# Altium footprint library Digital_IC.PcbLib: 28 footprints (part 1 of 2)
Each footprint in its own frame and in the unit in brackets; x right, y up, seen from the top. Pads: shape width x height; smd on the part's side, far side on the other; paste and mask are expansions set on the pad; w line width, h text height; cw(c..) or ccw(c..) is an arc to the next point about the centre after c.
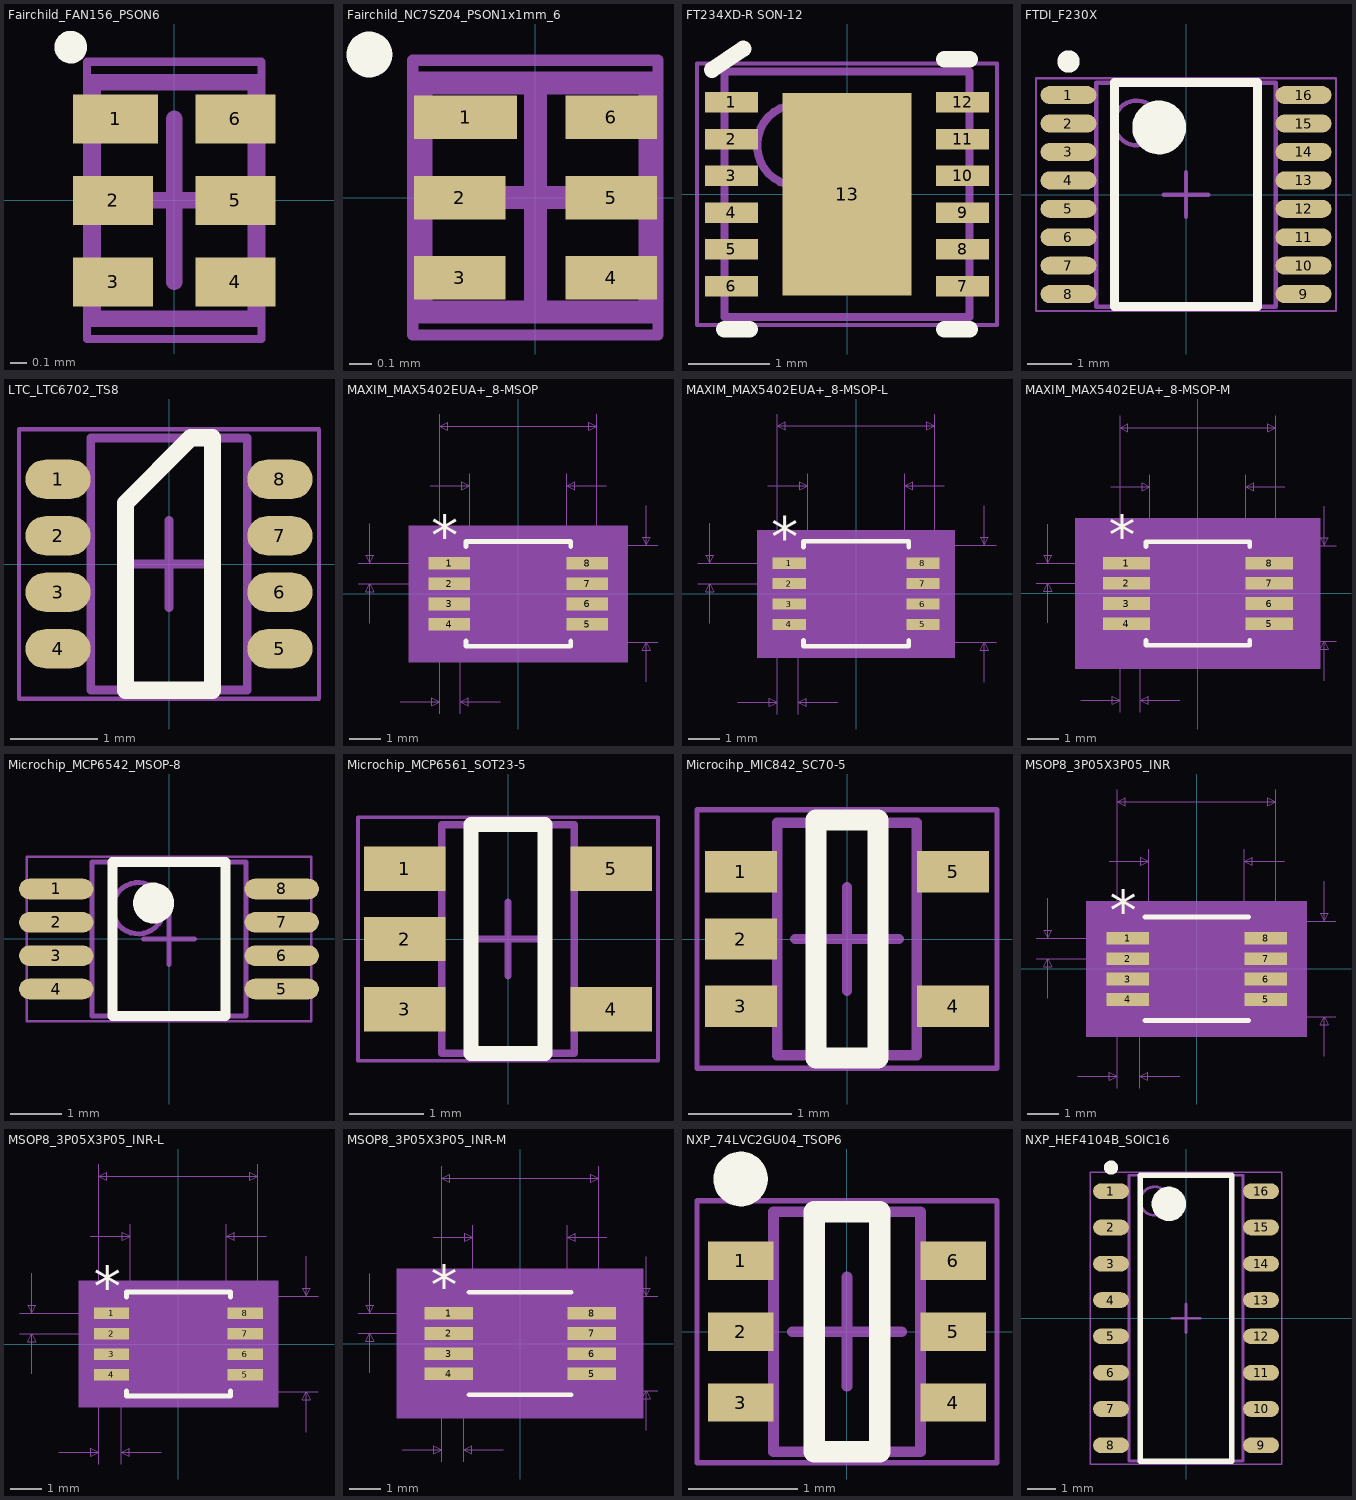
[diagram p0: the footprints below, top view; thin cyan lines are the x and y axes]

## Fairchild_FAN156_PSON6 [mm] "PSON, 6-Leads, Body 1.45x1.00mm, Pitch 0.50mm, IPC High Density"
height 0.55
pads (6):
  rect 0.52x0.3 smd mask+0.05: 1(-0.36,0.5)
  rect 0.49x0.3 smd mask+0.05: 2(-0.375,0) 3(-0.375,-0.5) 4(0.375,-0.5) 5(0.375,0) 6(0.375,0.5)
Top Overlay:
  circle w0.1: c-0.635,0.94 r0.05
Mechanical 13:
  lines w0.1: -0.5,-0.725 0.5,-0.725 0.5,0.725 -0.5,0.725 -0.5,-0.725
Mechanical 15:
  lines w0.05: -0.535,-0.85 0.535,-0.85 0.535,0.85 -0.535,0.85 -0.535,-0.85
  lines w0.1: -0.5,0 0.5,0 ; 0,-0.5 0,0.5
3D body "Fairchild_FAN156_PSON6.step": height 0.55, standoff 0, extent -0.501,-0.725 0.501,0.725

## Fairchild_NC7SZ04_PSON1x1mm_6 [mm] "PSON, 6-Leads, Body 1.00x1.00mm, Pitch 0.35mm, IPC High Density"
height 0.55
pads (6):
  rect 0.45x0.19 smd mask+0.03: 1(-0.305,0.35)
  rect 0.4x0.19 smd mask+0.03: 2(-0.33,0) 3(-0.33,-0.35) 4(0.33,-0.35) 5(0.33,0) 6(0.33,0.35)
Top Overlay:
  circle w0.1: c-0.725,0.625 r0.05
Mechanical 13:
  lines w0.1: -0.5,-0.5 0.5,-0.5 0.5,0.5 -0.5,0.5 -0.5,-0.5
Mechanical 15:
  lines w0.05: -0.535,-0.6 0.535,-0.6 0.535,0.6 -0.535,0.6 -0.535,-0.6
  lines w0.1: -0.5,0 0.5,0 ; 0,-0.5 0,0.5
3D body "Fairchild_NC7SZ04_PSON1x1mm_6.step": height 0.55, standoff 0, extent -0.501,-0.5 0.501,0.5

## FT234XD-R SON-12 [mm] "SON, 12-Leads, Body 3.00x3.00mm, Pitch 0.45mm, Thermal Pad 2.48x1.58mm, IPC High Density"
height 0.8
pads (13):
  rect 0.65x0.25 smd mask+0.035: 1(-1.415,1.125) 2(-1.415,0.675) 3(-1.415,0.225) 4(-1.415,-0.225) 5(-1.415,-0.675) 6(-1.415,-1.125) 7(1.415,-1.125) 8(1.415,-0.675) 9(1.415,-0.225) 10(1.415,0.225) 11(1.415,0.675) 12(1.415,1.125)
  rect 1.58x2.48 smd mask+0.035: 13(0,0)
Top Overlay:
  lines w0.2: -1.651,1.524 -1.27,1.778 ; -1.5,-1.65 -1.19,-1.65 ; 1.19,-1.65 1.5,-1.65 ; 1.19,1.65 1.5,1.65
Mechanical 13:
  circle w0.1: c-0.6,0.6 r0.5
  lines w0.1: -1.5,-1.5 1.5,-1.5 1.5,1.5 -1.5,1.5 -1.5,-1.5
Mechanical 15:
  lines w0.05: -1.835,-1.6 1.835,-1.6 1.835,1.6 -1.835,1.6 -1.835,-1.6
  lines w0.1: -0.5,0 0.5,0 ; 0,-0.5 0,0.5
3D body "FT234XD-R SON-12.step": height 0.8, standoff 0, extent -1.501,-1.5 1.501,1.5

## FTDI_F230X [mm] "SOP, 16-Leads, Body 4.90x3.90mm, Pitch 0.64mm, IPC High Density"
height 1.75
pads (16):
  oval 1.25x0.4 smd mask+0.023: 1(-2.625,2.222) 2(-2.625,1.587) 3(-2.625,0.953) 4(-2.625,0.318) 5(-2.625,-0.318) 6(-2.625,-0.953) 7(-2.625,-1.587) 8(-2.625,-2.222) 9(2.625,-2.222) 10(2.625,-1.587) 11(2.625,-0.953) 12(2.625,-0.318) 13(2.625,0.318) 14(2.625,0.953) 15(2.625,1.587) 16(2.625,2.222)
Top Overlay:
  circle w0.25: c-2.625,2.973 r0.125
  circle w0.6: c-0.6,1.5 r0.3
  lines w0.2: -1.6,-2.5 -1.6,2.5 1.6,2.5 1.6,-2.5 -1.6,-2.5
Mechanical 13:
  circle w0.1: c-1.1,1.6 r0.5
  lines w0.1: -2,-2.5 -2,2.5 2,2.5 2,-2.5 -2,-2.5
Mechanical 15:
  lines w0.05: -3.35,-2.6 -3.35,2.6 3.35,2.6 3.35,-2.6 -3.35,-2.6
  lines w0.1: -0.5,0 0.5,0 ; 0,-0.5 0,0.5
3D body "FTDI_F230X.step": height 1.75, standoff 0, extent -3,-2.5 3,2.5

## LTC_LTC6702_TS8 [mm] "TSOP, 8-Leads, Body 2.90x1.63mm, Pitch 0.65mm, IPC High Density"
height 1
pads (8):
  oval 0.75x0.45 smd mask+0.06: 1(-1.275,0.975) 2(-1.275,0.325) 3(-1.275,-0.325) 4(-1.275,-0.975) 5(1.275,-0.975) 6(1.275,-0.325) 7(1.275,0.325) 8(1.275,0.975)
Top Overlay:
  lines w0.2: -0.5,-1.45 0.5,-1.45 0.5,1.45 0.25,1.45 -0.5,0.7 -0.5,-1.45
Mechanical 13:
  lines w0.1: -0.9,-1.45 -0.9,1.45 0.9,1.45 0.9,-1.45 -0.9,-1.45
Mechanical 15:
  lines w0.05: -1.725,-1.55 -1.725,1.55 1.725,1.55 1.725,-1.55 -1.725,-1.55
  lines w0.1: -0.5,0 0.5,0 ; 0,-0.5 0,0.5
3D body "LTC_LTC6702_TS8.step": height 1, standoff 0, extent -1.4,-1.45 1.4,1.45

## MAXIM_MAX5402EUA+_8-MSOP [mil] "IC DGTL POT 10KOHM 256TAP 8UMAX"
pads (8):
  rect 52x16 smd paste+0 mask+0: 1(-87,38.4) 2(-87,12.8) 3(-87,-12.8) 4(-87,-38.4) 5(87,-38.4) 6(87,-12.8) 7(87,12.8) 8(87,38.4)
Top Overlay:
  lines w6: -66,-59.5 -66,-66 66,-66 66,-59.5 ; -66,59.5 -66,66 66,66 66,59.5
  text "*" at -109.5,49.4 h50
Mechanical 5:
  region: 138,-86 -138,-86 -138,86 138,86
Mechanical 7:
  lines w1: -202,12.8 -87,12.8 ; -202,38.4 -87,38.4 ; -187,-37.2 -187,12.8 ; -187,88.4 -187,38.4 ; -149,-136 -99,-136 ; -111,136 -61,136 ; -99,-151 -99,0 -99,226 ; -73,-151 -73,0 ; -61,0 -61,151 ; -23,-136 -73,-136 ; 0,-61 176,-61 ; 0,61 176,61 ; 61,0 61,151 ; 99,0 99,226 ; 111,136 61,136 ; 161,-111 161,-61 ; 161,111 161,61 ; -187,12.8 -182,2.8 -192,2.8 -187,12.8 ; -187,38.4 -182,48.4 -192,48.4 -187,38.4 ; -99,-136 -109,-141 -109,-131 -99,-136 ; -99,211 -89,206 -89,216 -99,211 ; -99,211 99,211 ; -73,-136 -63,-141 -63,-131 -73,-136 ; -61,136 -71,131 -71,141 -61,136 ; 61,136 71,131 71,141 61,136 ; 99,211 89,206 89,216 99,211 ; 161,-61 166,-71 156,-71 161,-61 ; 161,61 166,71 156,71 161,61
  text "0.026in/0.66mm" at -173.5,-181 h25
  text "0.026in/0.65mm" at -382,13.1 h25
  text "0.122in/3.099mm" at 181,-12.5 h25
  text "0.198in/5.029mm" at -93.75,231 h25
  text "0.122in/3.099mm" at -93.75,156 h25
  text "Alt 2 Padstyle: OX90Y60D30P" at -337.5,-561 h50
  text "Alt 1 Padstyle: OX60Y90D30P" at -337.5,-501 h50
  text "Pin One Padstyle: RX52Y16D0T" at -350,-321 h50
  text "Default Padstyle: RX52Y16D0T" at -350,-261 h50
Mechanical 13:
  lines w0: -12,61 ccw(c0,61) 12,61
  lines w1: -99,-45.4 -61,-45.4 -61,-31.4 -99,-31.4 -99,-45.4 ; -99,-19.8 -61,-19.8 -61,-5.8 -99,-5.8 -99,-19.8 ; -99,5.8 -61,5.8 -61,19.8 -99,19.8 -99,5.8 ; -99,31.4 -61,31.4 -61,45.4 -99,45.4 -99,31.4 ; -61,-61 -61,61 61,61 61,-61 -61,-61 ; 61,-45.4 99,-45.4 99,-31.4 61,-31.4 61,-45.4 ; 61,-19.8 99,-19.8 99,-5.8 61,-5.8 61,-19.8 ; 61,5.8 99,5.8 99,19.8 61,19.8 61,5.8 ; 61,31.4 99,31.4 99,45.4 61,45.4 61,31.4
  text "*" at -58.5,8 h50
Mechanical 15:
  region: -71,-56.4 -123,-56.4 -123,56.4 -71,56.4 -71,71 71,71 71,56.4 123,56.4 123,-56.4 71,-56.4 71,-71 -71,-71
  lines w6: -123,-56.4 -71,-56.4 -71,-71 71,-71 71,-56.4 123,-56.4 123,56.4 71,56.4 71,71 -71,71 -71,56.4 -123,56.4 -123,-56.4
3D body: height 10, standoff 0, extent 0,0 10,10
3D body "21-0036K_MXM.step": height 43.11, standoff 0, extent -99.01,-60.98 99.01,60.99

## MAXIM_MAX5402EUA+_8-MSOP-L [mil] "IC DGTL POT 10KOHM 256TAP 8UMAX"
pads (8):
  rect 42x14 smd paste+0 mask+0: 1(-84,38.4) 2(-84,12.8) 3(-84,-12.8) 4(-84,-38.4) 5(84,-38.4) 6(84,-12.8) 7(84,12.8) 8(84,38.4)
Top Overlay:
  lines w6: -66,-58.5 -66,-66 66,-66 66,-58.5 ; -66,58.5 -66,66 66,66 66,58.5
  text "*" at -106.5,47.4 h50
Mechanical 5:
  region: 124,-80 -124,-80 -124,80 124,80
Mechanical 7:
  lines w1: -199,12.8 -84,12.8 ; -199,38.4 -84,38.4 ; -184,-37.2 -184,12.8 ; -184,88.4 -184,38.4 ; -149,-136 -99,-136 ; -111,136 -61,136 ; -99,-151 -99,0 -99,226 ; -73,-151 -73,0 ; -61,0 -61,151 ; -23,-136 -73,-136 ; 0,-61 176,-61 ; 0,61 176,61 ; 61,0 61,151 ; 99,0 99,226 ; 111,136 61,136 ; 161,-111 161,-61 ; 161,111 161,61 ; -184,12.8 -179,2.8 -189,2.8 -184,12.8 ; -184,38.4 -179,48.4 -189,48.4 -184,38.4 ; -99,-136 -109,-141 -109,-131 -99,-136 ; -99,211 -89,206 -89,216 -99,211 ; -99,211 99,211 ; -73,-136 -63,-141 -63,-131 -73,-136 ; -61,136 -71,131 -71,141 -61,136 ; 61,136 71,131 71,141 61,136 ; 99,211 89,206 89,216 99,211 ; 161,-61 166,-71 156,-71 161,-61 ; 161,61 166,71 156,71 161,61
  text "0.026in/0.66mm" at -173.5,-181 h25
  text "0.026in/0.65mm" at -379,13.1 h25
  text "0.122in/3.099mm" at 181,-12.5 h25
  text "0.198in/5.029mm" at -93.75,231 h25
  text "0.122in/3.099mm" at -93.75,156 h25
  text "Alt 2 Padstyle: OX90Y60D30P" at -337.5,-561 h50
  text "Alt 1 Padstyle: OX60Y90D30P" at -337.5,-501 h50
  text "Pin One Padstyle: RX42Y14D0T" at -350,-321 h50
  text "Default Padstyle: RX42Y14D0T" at -350,-261 h50
Mechanical 13:
  lines w0: -12,61 ccw(c0,61) 12,61
  lines w1: -99,-45.4 -61,-45.4 -61,-31.4 -99,-31.4 -99,-45.4 ; -99,-19.8 -61,-19.8 -61,-5.8 -99,-5.8 -99,-19.8 ; -99,5.8 -61,5.8 -61,19.8 -99,19.8 -99,5.8 ; -99,31.4 -61,31.4 -61,45.4 -99,45.4 -99,31.4 ; -61,-61 -61,61 61,61 61,-61 -61,-61 ; 61,-45.4 99,-45.4 99,-31.4 61,-31.4 61,-45.4 ; 61,-19.8 99,-19.8 99,-5.8 61,-5.8 61,-19.8 ; 61,5.8 99,5.8 99,19.8 61,19.8 61,5.8 ; 61,31.4 99,31.4 99,45.4 61,45.4 61,31.4
  text "*" at -58.5,8 h50
Mechanical 15:
  region: -65,-49.4 -109,-49.4 -109,49.4 -65,49.4 -65,65 65,65 65,49.4 109,49.4 109,-49.4 65,-49.4 65,-65 -65,-65
  lines w6: -109,-49.4 -65,-49.4 -65,-65 65,-65 65,-49.4 109,-49.4 109,49.4 65,49.4 65,65 -65,65 -65,49.4 -109,49.4 -109,-49.4
3D body: height 10, standoff 0, extent 0,0 10,10
3D body: height 10, standoff 0, extent 0,0 10,10
3D body "21-0036K_MXM.step": height 43.11, standoff 0, extent -99.01,-60.98 99.01,60.99

## MAXIM_MAX5402EUA+_8-MSOP-M [mil] "IC DGTL POT 10KOHM 256TAP 8UMAX"
pads (8):
  rect 60x16 smd paste+0 mask+0: 1(-91,38.4) 2(-91,12.8) 3(-91,-12.8) 4(-91,-38.4) 5(91,-38.4) 6(91,-12.8) 7(91,12.8) 8(91,38.4)
Top Overlay:
  lines w6: -66,-59.5 -66,-66 66,-66 66,-59.5 ; -66,59.5 -66,66 66,66 66,59.5
  text "*" at -113.5,49.4 h50
Mechanical 5:
  region: 156,-96 -156,-96 -156,96 156,96
Mechanical 7:
  lines w1: -206,12.8 -91,12.8 ; -206,38.4 -91,38.4 ; -191,-37.2 -191,12.8 ; -191,88.4 -191,38.4 ; -149,-136 -99,-136 ; -111,136 -61,136 ; -99,-151 -99,0 -99,226 ; -73,-151 -73,0 ; -61,0 -61,151 ; -23,-136 -73,-136 ; 0,-61 176,-61 ; 0,61 176,61 ; 61,0 61,151 ; 99,0 99,226 ; 111,136 61,136 ; 161,-111 161,-61 ; 161,111 161,61 ; -191,12.8 -186,2.8 -196,2.8 -191,12.8 ; -191,38.4 -186,48.4 -196,48.4 -191,38.4 ; -99,-136 -109,-141 -109,-131 -99,-136 ; -99,211 -89,206 -89,216 -99,211 ; -99,211 99,211 ; -73,-136 -63,-141 -63,-131 -73,-136 ; -61,136 -71,131 -71,141 -61,136 ; 61,136 71,131 71,141 61,136 ; 99,211 89,206 89,216 99,211 ; 161,-61 166,-71 156,-71 161,-61 ; 161,61 166,71 156,71 161,61
  text "0.026in/0.66mm" at -173.5,-181 h25
  text "0.026in/0.65mm" at -386,13.1 h25
  text "0.122in/3.099mm" at 181,-12.5 h25
  text "0.198in/5.029mm" at -93.75,231 h25
  text "0.122in/3.099mm" at -93.75,156 h25
  text "Alt 2 Padstyle: OX90Y60D30P" at -337.5,-561 h50
  text "Alt 1 Padstyle: OX60Y90D30P" at -337.5,-501 h50
  text "Pin One Padstyle: RX60Y16D0T" at -350,-321 h50
  text "Default Padstyle: RX60Y16D0T" at -350,-261 h50
Mechanical 13:
  lines w0: -12,61 ccw(c0,61) 12,61
  lines w1: -99,-45.4 -61,-45.4 -61,-31.4 -99,-31.4 -99,-45.4 ; -99,-19.8 -61,-19.8 -61,-5.8 -99,-5.8 -99,-19.8 ; -99,5.8 -61,5.8 -61,19.8 -99,19.8 -99,5.8 ; -99,31.4 -61,31.4 -61,45.4 -99,45.4 -99,31.4 ; -61,-61 -61,61 61,61 61,-61 -61,-61 ; 61,-45.4 99,-45.4 99,-31.4 61,-31.4 61,-45.4 ; 61,-19.8 99,-19.8 99,-5.8 61,-5.8 61,-19.8 ; 61,5.8 99,5.8 99,19.8 61,19.8 61,5.8 ; 61,31.4 99,31.4 99,45.4 61,45.4 61,31.4
  text "*" at -58.5,8 h50
Mechanical 15:
  region: -81,-66.4 -141,-66.4 -141,66.4 -81,66.4 -81,81 81,81 81,66.4 141,66.4 141,-66.4 81,-66.4 81,-81 -81,-81
  lines w6: -141,-66.4 -81,-66.4 -81,-81 81,-81 81,-66.4 141,-66.4 141,66.4 81,66.4 81,81 -81,81 -81,66.4 -141,66.4 -141,-66.4
3D body: height 10, standoff 0, extent 0,0 10,10
3D body: height 10, standoff 0, extent 0,0 10,10
3D body "21-0036K_MXM.step": height 43.11, standoff 0, extent -99.01,-60.98 99.01,60.99

## Microchip_MCP6542_MSOP-8 [mm] "TSOP, 8-Leads, Body 3.00x3.00mm, Pitch 0.65mm, IPC High Density"
height 1.1
pads (8):
  oval 1.45x0.4 smd mask+0.045: 1(-2.2,0.975) 2(-2.2,0.325) 3(-2.2,-0.325) 4(-2.2,-0.975) 5(2.2,-0.975) 6(2.2,-0.325) 7(2.2,0.325) 8(2.2,0.975)
Top Overlay:
  circle w0.4: c-0.3,0.7 r0.2
  lines w0.2: -1.1,-1.5 1.1,-1.5 1.1,1.5 -1.1,1.5 -1.1,-1.5
Mechanical 13:
  circle w0.1: c-0.6,0.6 r0.5
  lines w0.1: -1.5,-1.5 1.5,-1.5 1.5,1.5 -1.5,1.5 -1.5,-1.5
Mechanical 15:
  lines w0.05: -2.775,-1.6 2.775,-1.6 2.775,1.6 -2.775,1.6 -2.775,-1.6
  lines w0.1: -0.5,0 0.5,0 ; 0,-0.5 0,0.5
3D body "Microchip_MCP6542_MSOP-8.step": height 1.1, standoff 0, extent -2.45,-1.5 2.45,1.5

## Microchip_MCP6561_SOT23-5 [mm] "SOT23, 5-Leads, Body 2.90x2.70mm, Pitch 0.95mm, IPC High Density"
height 1.45
pads (5):
  rect 1.1x0.6 smd mask+0.08: 1(-1.4,0.95) 2(-1.4,0) 3(-1.4,-0.95) 4(1.4,-0.95) 5(1.4,0.95)
Top Overlay:
  lines w0.2: -0.5,-1.55 0.5,-1.55 0.5,1.55 -0.5,1.55 -0.5,-1.55
Mechanical 13:
  lines w0.1: -0.9,-1.55 -0.9,1.55 0.9,1.55 0.9,-1.55 -0.9,-1.55
Mechanical 15:
  lines w0.05: -2.032,-1.65 -2.032,1.65 2.032,1.65 2.032,-1.65 -2.032,-1.65
  lines w0.1: -0.5,0 0.5,0 ; 0,-0.5 0,0.5
3D body "Microchip_MCP6561_SOT23-5.step": height 1.45, standoff 0, extent -1.7,-1.55 1.7,1.55

## Microcihp_MIC842_SC70-5 [mm] "SOT23, 5-Leads, Body 2.03x2.10mm, Pitch 0.65mm, IPC High Density"
height 1.1
pads (5):
  rect 0.7x0.4 smd mask+0.04: 1(-1.025,0.65) 2(-1.025,0) 3(-1.025,-0.65) 4(1.025,-0.65) 5(1.025,0.65)
Top Overlay:
  lines w0.2: -0.3,-1.15 0.3,-1.15 0.3,1.15 -0.3,1.15 -0.3,-1.15
Mechanical 13:
  lines w0.1: -0.675,-1.125 -0.675,1.125 0.675,1.125 0.675,-1.125 -0.675,-1.125
Mechanical 15:
  lines w0.05: -1.45,-1.25 -1.45,1.25 1.45,1.25 1.45,-1.25 -1.45,-1.25
  lines w0.1: -0.5,0 0.5,0 ; 0,-0.5 0,0.5
3D body "Microcihp_MIC842_SC70-5.step": height 1.1, standoff 0, extent -1.2,-1.125 1.2,1.125

## MSOP8_3P05X3P05_INR [mil]
pads (8):
  rect 53.5x16 smd paste+0 mask+0: 1(-86.75,38.39) 2(-86.75,12.8) 3(-86.75,-12.8) 4(-86.75,-38.39) 5(86.75,-38.39) 6(86.75,-12.8) 7(86.75,12.8) 8(86.75,38.39)
Top Overlay:
  lines w6: -65,-65 65,-65 ; -65,65 65,65
  text "*" at -109.25,49.39 h50
Mechanical 5:
  region: 138.5,-85 -138.5,-85 -138.5,85 138.5,85
Mechanical 7:
  lines w1: -201.75,12.8 -86.75,12.8 ; -201.75,38.39 -86.75,38.39 ; -186.75,-37.2 -186.75,12.8 ; -186.75,88.39 -186.75,38.39 ; -149.5,-135 -99.5,-135 ; -110,135 -60,135 ; -99.5,-150 -99.5,0 -99.5,225 ; -71.5,-150 -71.5,0 ; -60,0 -60,150 ; -21.5,-135 -71.5,-135 ; 0,-60 175,-60 ; 0,60 175,60 ; 60,0 60,150 ; 99.5,0 99.5,225 ; 110,135 60,135 ; 160,-110 160,-60 ; 160,110 160,60 ; -186.75,12.8 -191.75,2.8 -181.75,2.8 -186.75,12.8 ; -186.75,38.39 -191.75,48.39 -181.75,48.39 -186.75,38.39 ; -99.5,-135 -109.5,-130 -109.5,-140 -99.5,-135 ; -99.5,210 99.5,210 ; -99.5,210 -89.5,215 -89.5,205 -99.5,210 ; -71.5,-135 -61.5,-130 -61.5,-140 -71.5,-135 ; -60,135 -70,140 -70,130 -60,135 ; 60,135 70,140 70,130 60,135 ; 99.5,210 89.5,215 89.5,205 99.5,210 ; 160,-60 155,-70 165,-70 160,-60 ; 160,60 155,70 165,70 160,60
  text "Default Padstyle: RX53p5Y16D0T" at -375,-260 h50
  text "Pin One Padstyle: RX53p5Y16D0T" at -375,-320 h50
  text "Alt 1 Padstyle: OX60Y90D30P" at -337.5,-500 h50
  text "Alt 2 Padstyle: OX90Y60D30P" at -337.5,-560 h50
  text "0.12in/3.048mm" at -87.5,155 h25
  text "0.199in/5.055mm" at -93.75,230 h25
  text "0.12in/3.048mm" at 180,-12.5 h25
  text "0.026in/0.65mm" at -381.75,13.09 h25
  text "0.028in/0.711mm" at -179.25,-180 h25
Mechanical 13:
  lines w0: -12,60 ccw(c0,60) 12,60
  lines w1: -99.5,-45.39 -99.5,-31.39 -60,-31.39 -60,-45.39 -99.5,-45.39 ; -99.5,-19.8 -99.5,-5.8 -60,-5.8 -60,-19.8 -99.5,-19.8 ; -99.5,5.8 -99.5,19.8 -60,19.8 -60,5.8 -99.5,5.8 ; -99.5,31.39 -99.5,45.39 -60,45.39 -60,31.39 -99.5,31.39 ; -60,-60 60,-60 60,60 -60,60 -60,-60 ; 60,-45.39 60,-31.39 99.5,-31.39 99.5,-45.39 60,-45.39 ; 60,-19.8 60,-5.8 99.5,-5.8 99.5,-19.8 60,-19.8 ; 60,5.8 60,19.8 99.5,19.8 99.5,5.8 60,5.8 ; 60,31.39 60,45.39 99.5,45.39 99.5,31.39 60,31.39
  text "*" at -57.5,7 h50
Mechanical 15:
  region: -70,-56.39 -123.5,-56.39 -123.5,56.39 -70,56.39 -70,70 70,70 70,56.39 123.5,56.39 123.5,-56.39 70,-56.39 70,-70 -70,-70
  lines w6: -123.5,-56.39 -123.5,56.39 -70,56.39 -70,70 70,70 70,56.39 123.5,56.39 123.5,-56.39 70,-56.39 70,-70 -70,-70 -70,-56.39 -123.5,-56.39
3D body: height 10, standoff 0, extent 0,0 10,10
3D body "MSOP8_3P05X3P05_INR.step": height 43.11, standoff 0, extent -99.49,-60 99.49,60

## MSOP8_3P05X3P05_INR-L [mil]
pads (8):
  rect 44x14 smd paste+0 mask+0: 1(-83.5,38.39) 2(-83.5,12.8) 3(-83.5,-12.8) 4(-83.5,-38.39) 5(83.5,-38.39) 6(83.5,-12.8) 7(83.5,12.8) 8(83.5,38.39)
Top Overlay:
  lines w6: -65,-58.49 -65,-65 65,-65 65,-58.49 ; -65,58.49 -65,65 65,65 65,58.49
  text "*" at -106,47.39 h50
Mechanical 5:
  region: 124.5,-79 -124.5,-79 -124.5,79 124.5,79
Mechanical 7:
  lines w1: -198.5,12.8 -83.5,12.8 ; -198.5,38.39 -83.5,38.39 ; -183.5,-37.2 -183.5,12.8 ; -183.5,88.39 -183.5,38.39 ; -149.5,-135 -99.5,-135 ; -110,135 -60,135 ; -99.5,-150 -99.5,0 -99.5,225 ; -71.5,-150 -71.5,0 ; -60,0 -60,150 ; -21.5,-135 -71.5,-135 ; 0,-60 175,-60 ; 0,60 175,60 ; 60,0 60,150 ; 99.5,0 99.5,225 ; 110,135 60,135 ; 160,-110 160,-60 ; 160,110 160,60 ; -183.5,12.8 -178.5,2.8 -188.5,2.8 -183.5,12.8 ; -183.5,38.39 -178.5,48.39 -188.5,48.39 -183.5,38.39 ; -99.5,-135 -109.5,-140 -109.5,-130 -99.5,-135 ; -99.5,210 -89.5,205 -89.5,215 -99.5,210 ; -99.5,210 99.5,210 ; -71.5,-135 -61.5,-140 -61.5,-130 -71.5,-135 ; -60,135 -70,130 -70,140 -60,135 ; 60,135 70,130 70,140 60,135 ; 99.5,210 89.5,205 89.5,215 99.5,210 ; 160,-60 165,-70 155,-70 160,-60 ; 160,60 165,70 155,70 160,60
  text "0.028in/0.711mm" at -179.25,-180 h25
  text "0.026in/0.65mm" at -378.5,13.09 h25
  text "0.12in/3.048mm" at 180,-12.5 h25
  text "0.199in/5.055mm" at -93.75,230 h25
  text "0.12in/3.048mm" at -87.5,155 h25
  text "Alt 2 Padstyle: OX90Y60D30P" at -337.5,-560 h50
  text "Alt 1 Padstyle: OX60Y90D30P" at -337.5,-500 h50
  text "Pin One Padstyle: RX44Y14D0T" at -350,-320 h50
  text "Default Padstyle: RX44Y14D0T" at -350,-260 h50
Mechanical 13:
  lines w0: -12,60 ccw(c0,60) 12,60
  lines w1: -99.5,-45.39 -60,-45.39 -60,-31.39 -99.5,-31.39 -99.5,-45.39 ; -99.5,-19.8 -60,-19.8 -60,-5.8 -99.5,-5.8 -99.5,-19.8 ; -99.5,5.8 -60,5.8 -60,19.8 -99.5,19.8 -99.5,5.8 ; -99.5,31.39 -60,31.39 -60,45.39 -99.5,45.39 -99.5,31.39 ; -60,-60 -60,60 60,60 60,-60 -60,-60 ; 60,-45.39 99.5,-45.39 99.5,-31.39 60,-31.39 60,-45.39 ; 60,-19.8 99.5,-19.8 99.5,-5.8 60,-5.8 60,-19.8 ; 60,5.8 99.5,5.8 99.5,19.8 60,19.8 60,5.8 ; 60,31.39 99.5,31.39 99.5,45.39 60,45.39 60,31.39
  text "*" at -57.5,7 h50
Mechanical 15:
  region: -64,-49.39 -109.5,-49.39 -109.5,49.39 -64,49.39 -64,64 64,64 64,49.39 109.5,49.39 109.5,-49.39 64,-49.39 64,-64 -64,-64
  lines w6: -109.5,-49.39 -64,-49.39 -64,-64 64,-64 64,-49.39 109.5,-49.39 109.5,49.39 64,49.39 64,64 -64,64 -64,49.39 -109.5,49.39 -109.5,-49.39
3D body: height 10, standoff 0, extent 0,0 10,10
3D body "MSOP8_3P05X3P05_INR.step": height 43.11, standoff 0, extent -99.49,-60 99.49,60

## MSOP8_3P05X3P05_INR-M [mil]
pads (8):
  rect 61.5x16 smd paste+0 mask+0: 1(-90.75,38.39) 2(-90.75,12.8) 3(-90.75,-12.8) 4(-90.75,-38.39) 5(90.75,-38.39) 6(90.75,-12.8) 7(90.75,12.8) 8(90.75,38.39)
Top Overlay:
  lines w6: -65,-65 65,-65 ; -65,65 65,65
  text "*" at -113.25,49.39 h50
Mechanical 5:
  region: 156.5,-95 -156.5,-95 -156.5,95 156.5,95
Mechanical 7:
  lines w1: -205.75,12.8 -90.75,12.8 ; -205.75,38.39 -90.75,38.39 ; -190.75,-37.2 -190.75,12.8 ; -190.75,88.39 -190.75,38.39 ; -149.5,-135 -99.5,-135 ; -110,135 -60,135 ; -99.5,-150 -99.5,0 -99.5,225 ; -71.5,-150 -71.5,0 ; -60,0 -60,150 ; -21.5,-135 -71.5,-135 ; 0,-60 175,-60 ; 0,60 175,60 ; 60,0 60,150 ; 99.5,0 99.5,225 ; 110,135 60,135 ; 160,-110 160,-60 ; 160,110 160,60 ; -190.75,12.8 -195.75,2.8 -185.75,2.8 -190.75,12.8 ; -190.75,38.39 -195.75,48.39 -185.75,48.39 -190.75,38.39 ; -99.5,-135 -109.5,-130 -109.5,-140 -99.5,-135 ; -99.5,210 99.5,210 ; -99.5,210 -89.5,215 -89.5,205 -99.5,210 ; -71.5,-135 -61.5,-130 -61.5,-140 -71.5,-135 ; -60,135 -70,140 -70,130 -60,135 ; 60,135 70,140 70,130 60,135 ; 99.5,210 89.5,215 89.5,205 99.5,210 ; 160,-60 155,-70 165,-70 160,-60 ; 160,60 155,70 165,70 160,60
  text "Default Padstyle: RX61p5Y16D0T" at -375,-260 h50
  text "Pin One Padstyle: RX61p5Y16D0T" at -375,-320 h50
  text "Alt 1 Padstyle: OX60Y90D30P" at -337.5,-500 h50
  text "Alt 2 Padstyle: OX90Y60D30P" at -337.5,-560 h50
  text "0.12in/3.048mm" at -87.5,155 h25
  text "0.199in/5.055mm" at -93.75,230 h25
  text "0.12in/3.048mm" at 180,-12.5 h25
  text "0.026in/0.65mm" at -385.75,13.09 h25
  text "0.028in/0.711mm" at -179.25,-180 h25
Mechanical 13:
  lines w0: -12,60 ccw(c0,60) 12,60
  lines w1: -99.5,-45.39 -99.5,-31.39 -60,-31.39 -60,-45.39 -99.5,-45.39 ; -99.5,-19.8 -99.5,-5.8 -60,-5.8 -60,-19.8 -99.5,-19.8 ; -99.5,5.8 -99.5,19.8 -60,19.8 -60,5.8 -99.5,5.8 ; -99.5,31.39 -99.5,45.39 -60,45.39 -60,31.39 -99.5,31.39 ; -60,-60 60,-60 60,60 -60,60 -60,-60 ; 60,-45.39 60,-31.39 99.5,-31.39 99.5,-45.39 60,-45.39 ; 60,-19.8 60,-5.8 99.5,-5.8 99.5,-19.8 60,-19.8 ; 60,5.8 60,19.8 99.5,19.8 99.5,5.8 60,5.8 ; 60,31.39 60,45.39 99.5,45.39 99.5,31.39 60,31.39
  text "*" at -57.5,7 h50
Mechanical 15:
  region: -80,-66.39 -141.5,-66.39 -141.5,66.39 -80,66.39 -80,80 80,80 80,66.39 141.5,66.39 141.5,-66.39 80,-66.39 80,-80 -80,-80
  lines w6: -141.5,-66.39 -141.5,66.39 -80,66.39 -80,80 80,80 80,66.39 141.5,66.39 141.5,-66.39 80,-66.39 80,-80 -80,-80 -80,-66.39 -141.5,-66.39
3D body: height 10, standoff 0, extent 0,0 10,10
3D body "MSOP8_3P05X3P05_INR.step": height 43.11, standoff 0, extent -99.49,-60 99.49,60

## NXP_74LVC2GU04_TSOP6 [mm] "SOT23, 6-Leads, Body 2.00x2.10mm, Pitch 0.65mm, IPC High Density"
height 1.1
pads (6):
  rect 0.6x0.35 smd mask+0.06: 1(-0.975,0.65) 2(-0.975,0) 3(-0.975,-0.65) 4(0.975,-0.65) 5(0.975,0) 6(0.975,0.65)
Top Overlay:
  circle w0.25: c-0.975,1.4 r0.125
  lines w0.2: -0.3,-1.1 -0.3,1.1 0.3,1.1 0.3,-1.1 -0.3,-1.1
Mechanical 13:
  lines w0.1: -0.675,-1.1 0.675,-1.1 0.675,1.1 -0.675,1.1 -0.675,-1.1
Mechanical 15:
  lines w0.05: -1.375,-1.2 1.375,-1.2 1.375,1.2 -1.375,1.2 -1.375,-1.2
  lines w0.1: -0.5,0 0.5,0 ; 0,-0.5 0,0.5
3D body "SOT65P210X110-6L.step": height 1.1, standoff 0, extent -1.15,-1.1 1.15,1.1

## NXP_HEF4104B_SOIC16 [mm] "SOIC, 16-Leads, Body 9.90x3.90mm, Pitch 1.27mm, IPC High Density"
height 1.75
pads (16):
  oval 1.25x0.55 smd: 1(-2.625,4.445) 2(-2.625,3.175) 3(-2.625,1.905) 4(-2.625,0.635) 5(-2.625,-0.635) 6(-2.625,-1.905) 7(-2.625,-3.175) 8(-2.625,-4.445) 9(2.625,-4.445) 10(2.625,-3.175) 11(2.625,-1.905) 12(2.625,-0.635) 13(2.625,0.635) 14(2.625,1.905) 15(2.625,3.175) 16(2.625,4.445)
Top Overlay:
  circle w0.6: c-0.6,4 r0.3
  circle w0.25: c-2.625,5.27 r0.125
  lines w0.2: -1.6,-5 1.6,-5 1.6,5 -1.6,5 -1.6,-5
Mechanical 13:
  circle w0.1: c-1.1,4.1 r0.5
  lines w0.1: -2,-5 2,-5 2,5 -2,5 -2,-5
Mechanical 15:
  lines w0.05: -3.35,-5.1 3.35,-5.1 3.35,5.1 -3.35,5.1 -3.35,-5.1
  lines w0.1: -0.5,0 0.5,0 ; 0,-0.5 0,0.5
3D body "NXP_HEF4104B_SOIC16.step": height 1.75, standoff 0, extent -3,-5 3,5